# EAGLE library part SN74HC02-Q1 (library texas-instruments.2)
QUADRUPLE 2-INPUT POSITIVE-NOR GATE
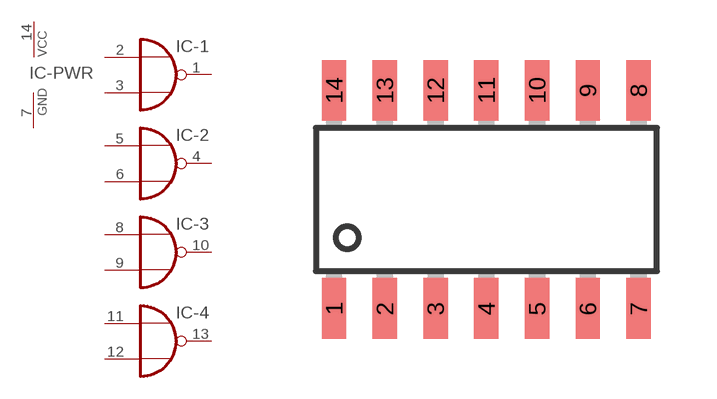
[diagram p7: symbol with the pads of SO-16; footprint SO-16]

Designator prefix IC; gates -1=74805 -2=74805 -3=74805 -4=74805 -PWR=PWRN

## SN74HC02-Q1  [SO-16]
1  -1:Y  out
2  -1:A  in
3  -1:B  in
4  -2:Y  out
5  -2:A  in
6  -2:B  in
7  -PWR:GND  pwr
8  -3:A  in
9  -3:B  in
10  -3:Y  out
11  -4:A  in
12  -4:B  in
13  -4:Y  out
14  -PWR:VCC  pwr

## Footprint SO-16 (pad centres in mm)
Small Outline Integrated Circuit
smd 0.61 x 1.524: 1 -3.81,-2.794; 2 -2.54,-2.794; 3 -1.27,-2.794; 4 0,-2.794; 5 1.27,-2.794; 6 2.54,-2.794; 7 3.81,-2.794; 8 3.81,2.667; 9 2.54,2.667; 10 1.27,2.667; 11 0,2.667; 12 -1.27,2.667; 13 -2.54,2.667; 14 -3.81,2.667